# EAGLE library part 75869-131 (library con-fci)
MALE HEADER
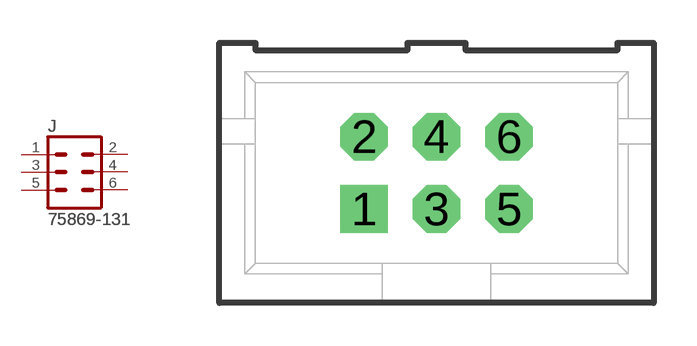
[diagram p6: symbol with the pads of 75869-131; footprint 75869-131]

Designator prefix J

## 75869-131  [75869-131]
1  1  pas
2  2  pas
3  3  pas
4  4  pas
5  5  pas
6  6  pas

## Footprint 75869-131 (pad centres in mm)
VERTICAL HEADER 6 position, FCI
drill 1.016 pad 1.676 square: 1 -2.54,-1.27
drill 1.016 pad 1.676 octagon: 2 -2.54,1.27; 3 0,-1.27; 4 0,1.27; 5 2.54,-1.27; 6 2.54,1.27